# Altium footprint library libreriaPcb.PcbLib: 683 footprints (part 38 of 44)
Each footprint in its own frame and in the unit in brackets; x right, y up, seen from the top. Pads: shape width x height; smd on the part's side, far side on the other; paste and mask are expansions set on the pad; w line width, h text height; cw(c..) or ccw(c..) is an arc to the next point about the centre after c.
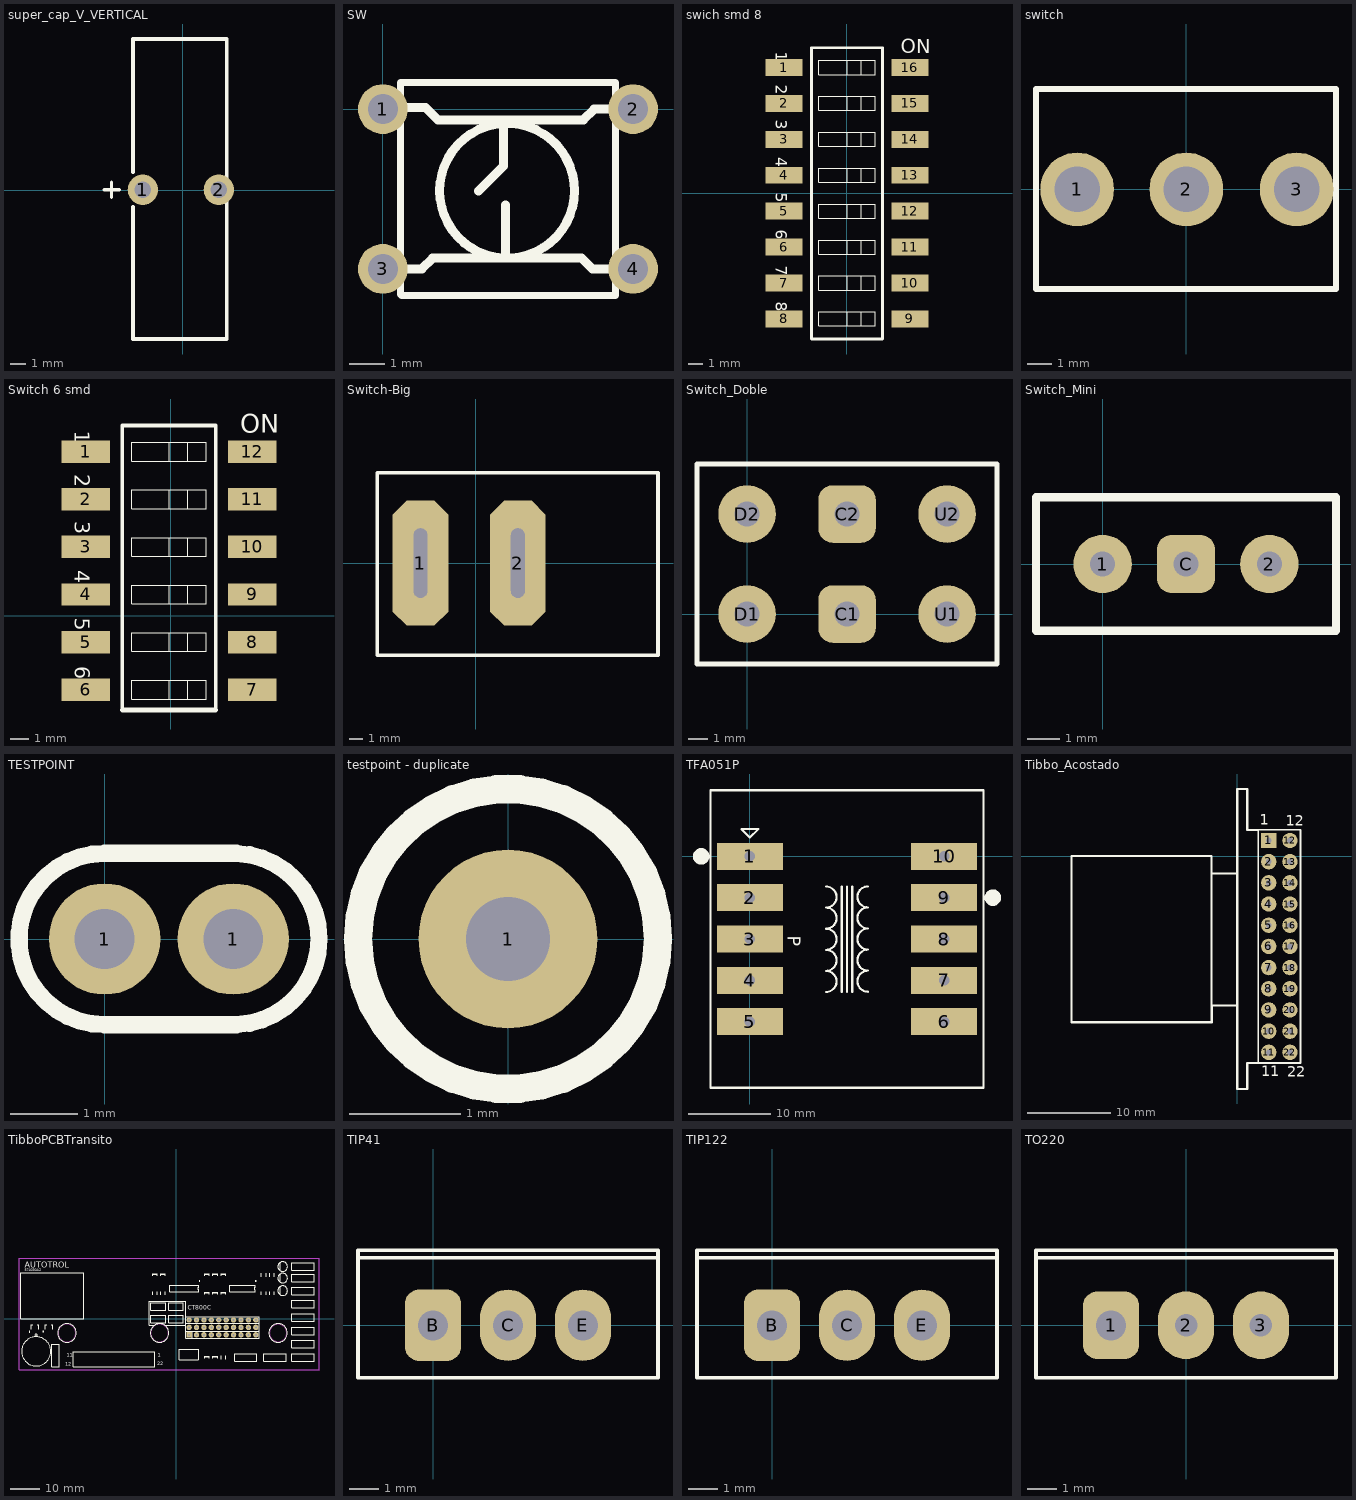
[diagram p37: the footprints below, top view; thin cyan lines are the x and y axes]

## super_cap_V_VERTICAL [mm]
height 5.5
pads (2):
  round 2 hole 1.1: 1(-2.625,0.025) 2(2.375,0.025)
Top Overlay:
  lines w0.2: -5.184,0.025 -4.168,0.025 ; -4.676,-0.483 -4.676,0.533
  lines w0.254: -3.275,-1.1 -3.275,-9.8 2.9,-9.8 2.9,9.95 -3.275,9.95 -3.275,1.175
3D body: height 18.5, standoff 2.5, extent -2.9,-7.8 -2.4,8.2
3D body: height 20, standoff 1, extent -2.4,-9.475 2.5,9.525
3D body: height 9.5, standoff -1, extent -3.022,-0.374 -2.225,0.424
3D body: height 9.5, standoff -1, extent 1.951,-0.35 2.748,0.448

## SW [mm]
pads (4):
  round 1.4 hole 0.85: 1(0,0) 2(7.05,0) 3(0,-4.5) 4(7.05,-4.5)
Top Overlay:
  circle w0.254: c3.5,-2.3 r1.9
  lines w0.2: 0.5,-5.225 0.5,0.75 6.55,0.75 6.55,-5.25 0.525,-5.25
  lines w0.254: 0.5,-4.5 1.1,-4.5 1.4,-4.2 5.6,-4.2 5.9,-4.5 6.55,-4.5 ; 0.5,0.05 1.2,0.05 1.55,-0.3 5.65,-0.3 5.95,0 6.55,0 ; 2.7,-2.3 3.4,-1.6 3.4,-0.3 ; 3.45,-4.15 3.45,-2.7 3.45,-3.95

## swich smd 8 [mm]
pads (16):
  rect 2.6x1.2 smd: 1(-4.45,8.89) 2(-4.45,6.35) 3(-4.45,3.81) 4(-4.45,1.27) 5(-4.45,-1.27) 6(-4.45,-3.81) 7(-4.45,-6.35) 8(-4.45,-8.89) 9(4.45,-8.89) 10(4.45,-6.35) 11(4.45,-3.81) 12(4.45,-1.27) 13(4.45,1.27) 14(4.45,3.81) 15(4.45,6.35) 16(4.45,8.89)
Top Overlay:
  lines w0.025: 0,-9.39 0,-8.39 ; 0,-6.85 0,-5.85 ; 0,-4.31 0,-3.31 ; 0,-1.77 0,-0.77 ; 0,0.77 0,1.77 ; 0,3.31 0,4.31 ; 0,5.85 0,6.85 ; 0,8.39 0,9.39 ; 1,-9.39 1,-8.39 ; 1,-6.85 1,-5.85 ; 1,-4.31 1,-3.31 ; 1,-1.77 1,-0.77 ; 1,0.77 1,1.77 ; 1,3.31 1,4.31 ; 1,5.85 1,6.85 ; 1,8.39 1,9.39 ; -2,-9.39 -2,-8.39 2,-8.39 2,-9.39 -2,-9.39 ; -2,-6.85 -2,-5.85 2,-5.85 2,-6.85 -2,-6.85 ; -2,-4.31 -2,-3.31 2,-3.31 2,-4.31 -2,-4.31 ; -2,-1.77 -2,-0.77 2,-0.77 2,-1.77 -2,-1.77 ; -2,0.77 -2,1.77 2,1.77 2,0.77 -2,0.77 ; -2,3.31 -2,4.31 2,4.31 2,3.31 -2,3.31 ; -2,5.85 -2,6.85 2,6.85 2,5.85 -2,5.85 ; -2,8.39 -2,9.39 2,9.39 2,8.39 -2,8.39
  lines w0.2: -2.5,-10.31 -2.5,10.29 2.5,10.29 2.5,-10.31 -2.5,-10.31
  text "6" at -5.032,-2.569 h0.8
  text "5" at -5.032,0.031 h0.8
  text "4" at -5.032,2.556 h0.8
  text "3" at -5.032,5.181 h0.8
  text "2" at -5.032,7.681 h0.8
  text "1" at -5.032,10.006 h0.8
  text "ON" at 3.81,9.906 h1
  text "7" at -5.032,-5.119 h0.8
  text "8" at -5.032,-7.659 h0.8
3D body: height 4, standoff 0, extent -2.015,5.851 2.007,6.85
3D body: height 4, standoff 0, extent -2.015,3.311 2.007,4.31
3D body: height 4, standoff 0, extent -2.015,0.771 2.007,1.77
3D body: height 4, standoff 0, extent -2.015,-1.769 2.007,-0.77
3D body: height 4, standoff 0, extent -2.015,-4.309 2.007,-3.31
3D body: height 4, standoff 0, extent -2.015,-6.849 2.007,-5.85
3D body: height 5, standoff 0, extent 0.001,8.391 0.999,9.389
3D body: height 5, standoff 0, extent 0.009,5.851 1.008,6.85
3D body: height 5, standoff 0, extent 0.009,3.311 1.008,4.31
3D body: height 5, standoff 0, extent 0.001,0.771 0.999,1.769
3D body: height 5, standoff 0, extent 0.001,-1.769 0.999,-0.771
3D body: height 5, standoff 0, extent 0.001,-4.309 0.999,-3.311
3D body: height 5, standoff 0, extent 0.001,-6.824 0.999,-5.825
3D body: height 4, standoff 0, extent -1.99,-9.389 2.032,-8.39
3D body: height 5, standoff 0, extent 0.001,-9.389 0.999,-8.391
3D body: height 4, standoff 0, extent -2.015,8.391 2.007,9.39
3D body: height 3, standoff 0, extent -2.6,-10.41 2.6,10.39
3D body: height 0.5, standoff 0, extent 3.065,8.391 5.064,9.39
3D body: height 2, standoff 0, extent 2.599,8.407 3.099,9.406
3D body: height 2, standoff 0, extent 2.595,5.851 3.095,6.85
3D body: height 2, standoff 0, extent 2.624,3.327 3.124,4.326
3D body: height 2, standoff 0, extent 2.57,0.771 3.069,1.77
3D body: height 2, standoff 0, extent 2.57,-9.364 3.069,-8.365
3D body: height 2, standoff 0, extent 2.599,-6.807 3.099,-5.808
3D body: height 2, standoff 0, extent 2.595,-4.284 3.095,-3.285
3D body: height 2, standoff 0, extent 2.595,-1.719 3.095,-0.72
3D body: height 2, standoff 0, extent -3.069,-1.769 -2.57,-0.77
3D body: height 2, standoff 0, extent -3.069,-4.335 -2.57,-3.336
3D body: height 2, standoff 0, extent -3.065,-6.858 -2.566,-5.859
3D body: height 2, standoff 0, extent -3.094,-9.415 -2.595,-8.416
3D body: height 2, standoff 0, extent -3.094,0.72 -2.595,1.719
3D body: height 2, standoff 0, extent -3.04,3.277 -2.54,4.276
3D body: height 2, standoff 0, extent -3.069,5.8 -2.57,6.799
3D body: height 2, standoff 0, extent -3.065,8.357 -2.566,9.356
3D body: height 0.5, standoff 0, extent 3.065,5.851 5.064,6.85
3D body: height 0.5, standoff 0, extent 3.073,3.311 5.072,4.309
3D body: height 0.5, standoff 0, extent 3.073,0.771 5.072,1.769
3D body: height 0.5, standoff 0, extent 3.065,-9.339 5.064,-8.34
3D body: height 0.5, standoff 0, extent 3.065,-6.799 5.064,-5.8
3D body: height 0.5, standoff 0, extent 3.065,-4.259 5.064,-3.26
3D body: height 0.5, standoff 0, extent 3.065,-1.719 5.064,-0.72
3D body: height 0.5, standoff 0, extent -5.063,-1.744 -3.064,-0.745
3D body: height 0.5, standoff 0, extent -5.063,-4.284 -3.064,-3.285
3D body: height 0.5, standoff 0, extent -5.063,-6.824 -3.064,-5.825
3D body: height 0.5, standoff 0, extent -5.063,-9.364 -3.064,-8.365
3D body: height 0.5, standoff 0, extent -5.055,0.745 -3.056,1.744
3D body: height 0.5, standoff 0, extent -5.055,3.285 -3.056,4.284
3D body: height 0.5, standoff 0, extent -5.063,5.825 -3.064,6.824
3D body: height 0.5, standoff 0, extent -5.063,8.365 -3.064,9.364

## switch [mm]
pads (3):
  round 3 hole 1.85: 1(-4.445,0) 2(0,0) 3(4.496,0)
Top Overlay:
  lines w0.254: -6.121,-4.064 -6.121,4.089 6.096,4.089 6.096,-4.064 -6.121,-4.064

## Switch 6 smd [mm]
pads (12):
  rect 2.6x1.2 smd: 1(-4.552,8.763) 2(-4.552,6.223) 3(-4.552,3.683) 4(-4.552,1.143) 5(-4.552,-1.397) 6(-4.552,-3.937) 7(4.348,-3.937) 8(4.348,-1.397) 9(4.348,1.143) 10(4.348,3.683) 11(4.348,6.223) 12(4.348,8.763)
Top Overlay:
  lines w0.025: -0.102,-4.437 -0.102,-3.437 ; -0.102,-1.897 -0.102,-0.897 ; -0.102,0.643 -0.102,1.643 ; -0.102,3.183 -0.102,4.183 ; -0.102,5.723 -0.102,6.723 ; -0.102,8.263 -0.102,9.263 ; 0.898,-4.437 0.898,-3.437 ; 0.898,-1.897 0.898,-0.897 ; 0.898,0.643 0.898,1.643 ; 0.898,3.183 0.898,4.183 ; 0.898,5.723 0.898,6.723 ; 0.898,8.263 0.898,9.263 ; -2.102,-4.437 1.898,-4.437 1.898,-3.437 -2.102,-3.437 -2.102,-4.437 ; -2.102,-1.897 1.898,-1.897 1.898,-0.897 -2.102,-0.897 -2.102,-1.897 ; -2.102,0.643 1.898,0.643 1.898,1.643 -2.102,1.643 -2.102,0.643 ; -2.102,3.183 1.898,3.183 1.898,4.183 -2.102,4.183 -2.102,3.183 ; -2.102,5.723 1.898,5.723 1.898,6.723 -2.102,6.723 -2.102,5.723 ; -2.102,8.263 1.898,8.263 1.898,9.263 -2.102,9.263 -2.102,8.263
  lines w0.2: -2.602,-5.004 -2.602,10.163 2.398,10.163 2.398,-5.029
  lines w0.254: -2.602,-5.004 -2.602,-5.029 2.398,-5.029
  text "ON" at 3.708,9.779 h1
  text "1" at -5.134,9.879 h0.8
  text "2" at -5.134,7.554 h0.8
  text "3" at -5.134,5.054 h0.8
  text "4" at -5.134,2.429 h0.8
  text "5" at -5.134,-0.096 h0.8
  text "6" at -5.134,-2.696 h0.8
3D body: height 3, standoff 0, extent -2.702,-5.004 2.498,10.263
3D body: height 0.5, standoff 0, extent -5.165,8.238 -3.166,9.237
3D body: height 0.5, standoff 0, extent -5.165,5.698 -3.166,6.697
3D body: height 0.5, standoff 0, extent -5.156,3.158 -3.157,4.157
3D body: height 0.5, standoff 0, extent -5.156,0.618 -3.157,1.617
3D body: height 0.5, standoff 0, extent -5.165,-4.411 -3.166,-3.412
3D body: height 0.5, standoff 0, extent -5.165,-1.871 -3.166,-0.872
3D body: height 0.5, standoff 0, extent 2.963,-1.846 4.962,-0.847
3D body: height 0.5, standoff 0, extent 2.963,-4.386 4.962,-3.387
3D body: height 0.5, standoff 0, extent 2.972,0.644 4.971,1.642
3D body: height 0.5, standoff 0, extent 2.972,3.184 4.971,4.182
3D body: height 0.5, standoff 0, extent 2.963,5.724 4.962,6.723
3D body: height 2, standoff 0, extent -3.167,8.23 -2.667,9.229
3D body: height 2, standoff 0, extent -3.171,5.673 -2.671,6.672
3D body: height 2, standoff 0, extent -3.141,3.15 -2.642,4.149
3D body: height 2, standoff 0, extent -3.196,0.593 -2.697,1.592
3D body: height 2, standoff 0, extent -3.171,-4.462 -2.671,-3.463
3D body: height 2, standoff 0, extent -3.171,-1.896 -2.671,-0.897
3D body: height 2, standoff 0, extent 2.494,-1.846 2.993,-0.847
3D body: height 2, standoff 0, extent 2.494,-4.411 2.993,-3.412
3D body: height 2, standoff 0, extent 2.468,0.644 2.968,1.643
3D body: height 2, standoff 0, extent 2.523,3.2 3.022,4.199
3D body: height 2, standoff 0, extent 2.494,5.724 2.993,6.723
3D body: height 2, standoff 0, extent 2.497,8.28 2.997,9.279
3D body: height 0.5, standoff 0, extent 2.963,8.264 4.962,9.263
3D body: height 4, standoff 0, extent -2.117,8.264 1.905,9.263
3D body: height 5, standoff 0, extent -0.101,-4.436 0.898,-3.438
3D body: height 5, standoff 0, extent -0.101,-1.896 0.898,-0.898
3D body: height 5, standoff 0, extent -0.101,0.644 0.898,1.642
3D body: height 5, standoff 0, extent -0.093,3.184 0.906,4.183
3D body: height 5, standoff 0, extent -0.093,5.724 0.906,6.723
3D body: height 5, standoff 0, extent -0.101,8.264 0.898,9.262
3D body: height 4, standoff 0, extent -2.117,-4.436 1.905,-3.437
3D body: height 4, standoff 0, extent -2.117,-1.896 1.905,-0.897
3D body: height 4, standoff 0, extent -2.117,0.644 1.905,1.643
3D body: height 4, standoff 0, extent -2.117,3.184 1.905,4.183
3D body: height 4, standoff 0, extent -2.117,5.724 1.905,6.723

## Switch-Big [mm]
pads (2):
  oct 4x9 hole 1 slot 5 at 90 deg: 1(-3.975,0) 2(3.038,0)
Top Overlay:
  lines w0.254: -7.1,-6.625 -7.1,-6.025 -7.1,5.9 -7.1,6.5 -6.5,6.5 12.5,6.5 13.125,6.5 13.125,5.9 13.125,-6.025 13.125,-6.625 12.5,-6.625 -6.5,-6.625 -7.1,-6.625
3D body: height 10, standoff 9, extent -7.125,-6.625 13.125,6.5
3D body: height 9, standoff 0, extent -6.5,-6.025 12.5,5.9
3D body: height 11, standoff 10, extent -5.325,-5 11.475,5
3D body: height 11.2, standoff 11.1, extent -1.112,-1 0.888,1
3D body: height 11.1, standoff 11, extent 6.713,-0.1 8.713,0.25

## Switch_Doble [mil]
pads (6):
  rrect50% 115x115 / inner round 0 / far side rrect50% 115x115 hole 50: C1(200,0) C2(200,200)
  round 115 / inner round 0 / far side round 115 hole 50: D1(0,0) D2(0,200) U1(400,0) U2(400,200)
Top Overlay:
  lines w10: -100,-100 500,-100 500,300 -100,300 -100,-100

## Switch_Mini [mil]
pads (3):
  round 70 / inner round 0 / far side round 70 hole 30: 1(0,0) 2(200,0)
  rrect50% 70x70 / inner round 0 / far side rrect50% 70x70 hole 30: C(100,0)
Top Overlay:
  lines w10: -80,-80 -80,80 280,80 280,-80 -80,-80

## TESTPOINT [mil]
pads (2):
  round 65 hole 35: 1(0,0) 1(75,0)
Top Overlay:
  lines w10: 0,-50 cw(c0,0) 0,50 76.77,50 cw(c75,0) 76.77,-50 0,-50

## testpoint - duplicate [mm]
pads (1):
  round 1.6 hole 0.75: 1(0,0)
Top Overlay:
  circle w0.254: c0,0 r1.344

## TFA051P [mm]
pads (10):
  rect 8x3.25 hole 1.25: 1(0,0) 2(0,-5) 3(0,-10) 4(0,-15) 5(0,-20) 6(23.5,-20) 7(23.5,-15) 8(23.5,-10) 9(23.5,-5) 10(23.5,0)
Top Overlay:
  circle w1: c29.4,-5 r0.5
  circle w1: c-5.9,0 r0.5
  lines w0.254: 9.21,-16.413 ccw(c9.21,-15.137) 9.21,-13.86 ccw(c9.21,-12.584) 9.21,-11.308 ccw(c9.21,-10.032) 9.21,-8.755 ccw(c9.21,-7.479) 9.21,-6.203 ccw(c9.21,-4.926) 9.21,-3.65 ; 11.115,-16.413 11.115,-3.65 ; 11.75,-16.413 11.75,-3.65 ; 12.385,-16.413 12.385,-3.65 ; 14.29,-16.388 cw(c14.29,-15.112) 14.29,-13.835 cw(c14.29,-12.559) 14.29,-11.283 cw(c14.29,-10.006) 14.29,-8.73 cw(c14.29,-7.454) 14.29,-6.177 cw(c14.29,-4.901) 14.29,-3.625 ; -4.75,-28 -4.75,8 28.25,8 28.25,-28 -4.75,-28 ; -1.016,3.3 0,2.284 1.016,3.3 -1.016,3.3
  text "P" at 4.6,-9.6 h1.52
3D body: height 28, standoff 4, extent -4.75,-28 28.25,8

## Tibbo_Acostado [mm]
pads (22):
  rect 1.85x1.85 hole 0.7: 1(3.755,1.88)
  round 1.85 hole 0.7: 2(3.755,-0.66) 3(3.755,-3.2) 4(3.755,-5.74) 5(3.755,-8.28) 6(3.755,-10.82) 7(3.755,-13.36) 8(3.755,-15.9) 9(3.755,-18.44) 10(3.755,-20.98) 11(3.755,-23.52) 12(6.295,1.88) 13(6.295,-0.66) 14(6.295,-3.2) 15(6.295,-5.74) 16(6.295,-8.28) 17(6.295,-10.82) 18(6.295,-13.36) 19(6.295,-15.9) 20(6.295,-18.44) 21(6.295,-20.98) 22(6.295,-23.52)
Top Overlay:
  lines w0.2: 2.485,-24.79 7.565,-24.79 7.565,3.15 2.485,3.15 2.485,-24.79
  lines w0.254: -3.075,-19.965 -3.075,-17.915 ; -3.075,-19.915 -19.9,-19.915 -19.9,0 -3.1,0 -3.1,-2.075 ; -0.025,-2.075 -3.1,-2.075 ; 0.025,-17.915 -3.075,-17.915 ; 2.485,-24.79 1.175,-24.79 1.175,-27.915 -0.025,-27.915 -0.025,8.05 1.175,8.05 1.175,3.15 2.485,3.15 ; -3.1,-2.075 -3.1,-17.915 -3.075,-17.915
  text "22" at 5.95,-26.445 h1.27
  text "11" at 2.875,-26.37 h1.27
  text "12" at 5.8,3.66 h1.27
  text "1" at 2.675,3.78 h1.27
3D body: height 2.25, standoff 2, extent -19.849,-19.839 -3.026,0.075
3D body: height 16, standoff 0, extent -0.024,-27.914 2.484,8.049
3D body: height 4, standoff 2, extent -3.099,-17.914 -0.026,-2.076
3D body: height 2, standoff 0, extent -19.962,-19.857 -3.138,0.057

## TibboPCBTransito [mm]
pads (30):
  round 1.85 hole 0.7: 0(4.438,-3.011) 0(6.978,-3.011) 0(9.518,-3.011) 0(12.058,-3.011) 0(14.598,-3.011) 0(17.138,-3.011) 0(19.678,-3.011) 0(22.218,-3.011) 0(24.758,-3.011) 0(27.298,-3.011) 2(4.438,-0.471) 3(6.978,-5.551) 4(6.978,-0.471) 5(9.518,-5.551) 6(9.518,-0.471) 7(12.058,-5.551) 8(12.058,-0.471) 9(14.598,-5.551) 10(14.598,-0.471) 11(17.138,-5.551) 12(17.138,-0.471) 13(19.678,-5.551) 14(19.678,-0.471) 15(22.218,-5.551) 16(22.218,-0.471) 17(24.758,-5.551) 18(24.758,-0.471) 19(27.298,-5.551) 20(27.298,-0.471)
  rect 1.85x1.85 hole 0.7: 1(4.438,-5.551)
Top Overlay:
  drawing of 183 lines, arcs and shapes, not listed
  text "1" at -6.375,-13.074 h1.27
  text "22" at -6.425,-15.919 h1.27
  text "11" at -37.591,-13.074 h1.27
  text "12" at -37.998,-16.096 h1.2
  text "574030A2" at -51.993,16.192 h0.91
  text "AUTOTROL" at -51.993,17.462 h2.05
  text "CT800C" at 3.887,2.984 h1.52
Top Paste:
  region: -29.491,14.922 -29.491,-5.144 -9.557,-5.144 -9.557,14.922
Top Solder:
  region: -29.51,15.176 -29.51,-5.144 -9.538,-5.144 -9.538,15.176
Keep-Out Layer:
  circle w0.254: c34.926,-4.915 r2.932
  circle w0.254: c-5.714,-4.915 r3.006
  circle w0.254: c-37.464,-4.915 r2.994
  lines w0.254: -53.898,-17.463 48.972,-17.463 48.972,20.637 -53.898,20.637 -53.898,-17.463
Mechanical 1:
  lines w0.254: -53.898,-17.463 48.972,-17.463 48.972,20.637 -53.898,20.637 -53.898,-17.463
3D body: height 10, standoff -1, extent -41.851,-10.494 -41.053,-9.697
3D body: height 10, standoff -1, extent -41.851,-13.034 -41.053,-12.237
3D body: height 10, standoff -1, extent -41.851,-15.574 -41.053,-14.777
3D body: height 10, standoff -1, extent 20.886,-13.671 21.683,-12.873
3D body: height 10, standoff -1, extent 23.426,-13.671 24.223,-12.873
3D body: height 10, standoff -1, extent 25.966,-13.671 26.763,-12.873
3D body: height 10, standoff -1, extent 40.571,13.507 41.368,14.305
3D body: height 10, standoff -1, extent 43.111,13.507 43.908,14.305
3D body: height 10, standoff -1, extent 45.651,13.507 46.448,14.305
3D body: height 10, standoff -1, extent 40.571,17.444 41.368,18.242
3D body: height 10, standoff -1, extent 43.111,17.444 43.908,18.242
3D body: height 10, standoff -1, extent 45.651,17.444 46.448,18.242
3D body: height 0.56, standoff 0.55, extent 15.431,-14.272 16.931,-12.272
3D body: height 0.5, standoff 0, extent -43.886,-2.514 -43.386,-1.764
3D body: height 0.5, standoff 0, extent -44.836,-4.714 -44.336,-3.964
3D body: height 0.5, standoff 0, extent -42.936,-4.714 -42.436,-3.964
3D body: height 10, standoff -1, extent 30.919,-13.671 31.716,-12.873
3D body: height 10, standoff -1, extent 33.459,-13.671 34.256,-12.873
3D body: height 10, standoff -1, extent 35.999,-13.671 36.796,-12.873
3D body: height 0.5, standoff 0, extent 6.994,7.299 7.394,8.299
3D body: height 0.5, standoff 0, extent 5.744,7.299 6.144,8.299
3D body: height 0.5, standoff 0, extent 4.469,7.299 4.869,8.299
3D body: height 0.5, standoff 0, extent 3.194,7.299 3.594,8.299
3D body: height 0.5, standoff 0, extent 1.919,7.299 2.319,8.299
3D body: height 0.5, standoff 0, extent 0.619,7.299 1.019,8.299
3D body: height 0.5, standoff 0, extent -0.631,7.299 -0.231,8.299
3D body: height 0.5, standoff 0, extent -1.906,7.299 -1.506,8.299
3D body: height 0.5, standoff 0, extent -1.931,12.299 -1.531,13.299
3D body: height 0.5, standoff 0, extent -0.656,12.299 -0.256,13.299
3D body: height 0.5, standoff 0, extent 0.619,12.299 1.019,13.299
3D body: height 0.5, standoff 0, extent 1.894,12.299 2.294,13.299
3D body: height 0.5, standoff 0, extent 3.169,12.299 3.569,13.299
3D body: height 0.5, standoff 0, extent 4.419,12.299 4.819,13.299
3D body: height 0.5, standoff 0, extent 5.694,12.299 6.094,13.299
3D body: height 0.5, standoff 0, extent 6.994,12.299 7.394,13.299
3D body: height 10, standoff -1, extent 40.571,-9.15 41.368,-8.352
3D body: height 10, standoff -1, extent 43.111,-9.15 43.908,-8.352
3D body: height 10, standoff -1, extent 45.651,-9.15 46.448,-8.352
3D body: height 10, standoff -1, extent 40.571,-4.578 41.368,-3.78
3D body: height 10, standoff -1, extent 43.111,-4.578 43.908,-3.78
3D body: height 10, standoff -1, extent 45.651,-4.578 46.448,-3.78
3D body: height 10, standoff -1, extent 40.571,-0.006 41.368,0.792
3D body: height 10, standoff -1, extent 43.111,-0.006 43.908,0.792
3D body: height 10, standoff -1, extent 45.651,-0.006 46.448,0.792
3D body: height 10, standoff -1, extent 40.571,4.566 41.368,5.364
3D body: height 10, standoff -1, extent 43.111,4.566 43.908,5.364
3D body: height 10, standoff -1, extent 45.651,4.566 46.448,5.364
3D body: height 10, standoff -1, extent 40.571,9.138 41.368,9.936
3D body: height 10, standoff -1, extent 43.111,9.138 43.908,9.936
3D body: height 10, standoff -1, extent 45.651,9.138 46.448,9.936
3D body: height 0.5, standoff 0, extent -48.636,-2.514 -48.136,-1.764
3D body: height 0.5, standoff 0, extent -49.586,-4.714 -49.086,-3.964
3D body: height 0.5, standoff 0, extent -47.686,-4.714 -47.186,-3.964
3D body: height 0, standoff -1, extent -43.838,12.05 -40.844,15.038
3D body: height 0, standoff -1, extent -43.838,0.62 -40.844,3.608
3D body: height 5, standoff 3, extent -53.116,15.78 -46.241,16.03
3D body: height 10, standoff 8, extent -53.116,15.78 -46.241,16.03
3D body: height 5, standoff 3, extent -53.116,-0.345 -46.241,-0.095
3D body: height 10, standoff 8, extent -53.116,-0.345 -46.241,-0.095
3D body: height 3, standoff 0.5, extent -53.491,5.768 -53.241,9.78
3D body: height 3, standoff 1.5, extent -53.491,5.105 -53.241,10.605
3D body: height 3, standoff 1, extent -53.491,10.643 -53.241,14.655
3D body: height 3, standoff 1, extent -53.491,1.03 -53.241,5.043
3D body: height 12, standoff 3, extent -53.491,1.405 -53.241,14.28
3D body: height 14, standoff 13, extent -53.253,4.53 -46.378,6.53
3D body: height 14, standoff 13, extent -53.253,9.193 -46.378,11.168
3D body: height 0, standoff -1, extent -33.85,2.99 -33.052,3.787
3D body: height 0, standoff -1, extent -33.85,5.53 -33.052,6.327
3D body: height 0, standoff -1, extent -33.85,8.07 -33.052,8.867
3D body: height 0, standoff -1, extent -33.85,10.61 -33.052,11.407
3D body: height 0, standoff -1, extent -36.39,4.26 -35.592,5.057
3D body: height 0, standoff -1, extent -36.39,6.8 -35.592,7.597
3D body: height 0, standoff -1, extent -36.39,9.34 -35.592,10.137
3D body: height 0, standoff -1, extent -36.39,11.88 -35.592,12.677
3D body: height 0, standoff -1, extent -46.8,0.805 -46.002,1.602
3D body: height 0, standoff -1, extent -46.8,3.345 -46.002,4.142
3D body: height 0, standoff -1, extent -46.8,11.525 -46.002,12.322
3D body: height 0, standoff -1, extent -46.8,14.065 -46.002,14.862
3D body: height 0, standoff -1, extent -39.89,-0.51 -38.692,0.686
3D body: height 0, standoff -1, extent -39.89,14.98 -38.692,16.176
3D body: height 0, standoff -1, extent -34.356,-15.556 -33.559,-14.757
3D body: height 0, standoff -1, extent -31.816,-15.556 -31.019,-14.757
3D body: height 0, standoff -1, extent -29.276,-15.556 -28.479,-14.757
3D body: height 0, standoff -1, extent -26.736,-15.556 -25.939,-14.757
3D body: height 0, standoff -1, extent -24.196,-15.556 -23.399,-14.757
3D body: height 0, standoff -1, extent -21.656,-15.556 -20.859,-14.757
3D body: height 0, standoff -1, extent -19.116,-15.556 -18.319,-14.757
3D body: height 0, standoff -1, extent -16.576,-15.556 -15.779,-14.757
3D body: height 0, standoff -1, extent -14.036,-15.556 -13.239,-14.757
3D body: height 0, standoff -1, extent -11.496,-15.556 -10.699,-14.757
3D body: height 0, standoff -1, extent -8.956,-15.556 -8.159,-14.757
3D body: height 0, standoff -1, extent -8.956,-13.016 -8.159,-12.217
3D body: height 0, standoff -1, extent -11.496,-13.016 -10.699,-12.217
3D body: height 0, standoff -1, extent -14.036,-13.016 -13.239,-12.217
3D body: height 0, standoff -1, extent -16.576,-13.016 -15.779,-12.217
3D body: height 0, standoff -1, extent -19.116,-13.016 -18.319,-12.217
3D body: height 0, standoff -1, extent -21.656,-13.016 -20.859,-12.217
3D body: height 0, standoff -1, extent -24.196,-13.016 -23.399,-12.217
3D body: height 0, standoff -1, extent -26.736,-13.016 -25.939,-12.217
3D body: height 0, standoff -1, extent -29.276,-13.016 -28.479,-12.217
3D body: height 0, standoff -1, extent -31.816,-13.016 -31.019,-12.217
3D body: height 0, standoff -1, extent -34.356,-13.016 -33.559,-12.217
3D body: height 8.2, standoff 8, extent -34.584,-15.857 -33.334,-14.482
3D body: height 8.2, standoff 8, extent -32.044,-15.857 -30.794,-14.482
3D body: height 8.2, standoff 8, extent -29.504,-15.857 -28.254,-14.482
3D body: height 8.2, standoff 8, extent -26.964,-15.857 -25.714,-14.482
3D body: height 8.2, standoff 8, extent -24.424,-15.857 -23.174,-14.482
3D body: height 8.2, standoff 8, extent -21.884,-15.857 -20.634,-14.482
3D body: height 8.2, standoff 8, extent -19.344,-15.857 -18.094,-14.482
3D body: height 8.2, standoff 8, extent -16.804,-15.844 -15.554,-14.469
3D body: height 8.2, standoff 8, extent -14.264,-15.857 -13.014,-14.482
3D body: height 8.2, standoff 8, extent -11.724,-15.857 -10.474,-14.482
3D body: height 8.2, standoff 8, extent -9.184,-15.857 -7.934,-14.482
3D body: height 8.2, standoff 8, extent -9.184,-13.317 -7.934,-11.942
3D body: height 8.2, standoff 8, extent -11.724,-13.317 -10.474,-11.942
3D body: height 8.2, standoff 8, extent -14.264,-13.317 -13.014,-11.942
3D body: height 8.2, standoff 8, extent -16.804,-13.317 -15.554,-11.942
3D body: height 8.2, standoff 8, extent -19.344,-13.317 -18.094,-11.942
3D body: height 8.2, standoff 8, extent -21.884,-13.317 -20.634,-11.942
3D body: height 8.2, standoff 8, extent -24.424,-13.317 -23.174,-11.942
3D body: height 8.2, standoff 8, extent -26.964,-13.317 -25.714,-11.942
3D body: height 8.2, standoff 8, extent -29.504,-13.317 -28.254,-11.942
3D body: height 8.2, standoff 8, extent -32.044,-13.317 -30.794,-11.942
3D body: height 8.2, standoff 8, extent -34.584,-13.317 -33.334,-11.942
3D body: height 5, standoff 2, extent -48.38,-15.246 -47.88,-15.121
3D body: height 12, standoff 0.2, extent -49.355,-15.233 -46.63,-14.658
3D body: height 10, standoff 7, extent -48.38,-15.246 -47.88,-15.121
3D body: height -8, standoff -8.2, extent 3.711,-1.175 5.211,0.325
3D body: height -8, standoff -8.2, extent 3.711,-3.715 5.211,-2.215
3D body: height -8, standoff -8.2, extent 3.711,-6.255 5.211,-4.755
3D body: height -8, standoff -8.2, extent 6.251,-6.255 7.751,-4.755
3D body: height -8, standoff -8.2, extent 6.251,-3.715 7.751,-2.215
3D body: height -8, standoff -8.2, extent 6.251,-1.175 7.751,0.325
3D body: height -8, standoff -8.2, extent 8.791,-1.175 10.291,0.325
3D body: height -8, standoff -8.2, extent 8.791,-3.715 10.291,-2.215
3D body: height -8, standoff -8.2, extent 8.791,-6.255 10.291,-4.755
3D body: height -8, standoff -8.2, extent 11.331,-6.255 12.831,-4.755
3D body: height -8, standoff -8.2, extent 11.331,-3.715 12.831,-2.215
3D body: height -8, standoff -8.2, extent 11.331,-1.175 12.831,0.325
3D body: height -8, standoff -8.2, extent 13.871,-1.175 15.371,0.325
3D body: height -8, standoff -8.2, extent 13.871,-3.715 15.371,-2.215
3D body: height -8, standoff -8.2, extent 13.871,-6.255 15.371,-4.755
3D body: height -8, standoff -8.2, extent 16.411,-6.255 17.911,-4.755
3D body: height -8, standoff -8.2, extent 16.411,-3.715 17.911,-2.215
3D body: height -8, standoff -8.2, extent 16.411,-1.175 17.911,0.325
3D body: height -8, standoff -8.2, extent 18.951,-1.175 20.451,0.325
3D body: height -8, standoff -8.2, extent 18.951,-3.715 20.451,-2.215
3D body: height -8, standoff -8.2, extent 18.951,-6.255 20.451,-4.755
3D body: height -8, standoff -8.2, extent 21.491,-6.255 22.991,-4.755
3D body: height -8, standoff -8.2, extent 21.491,-3.715 22.991,-2.215
3D body: height -8, standoff -8.2, extent 21.491,-1.175 22.991,0.325
3D body: height -8, standoff -8.2, extent 24.031,-1.175 25.531,0.325
3D body: height -8, standoff -8.2, extent 24.031,-3.715 25.531,-2.215
3D body: height -8, standoff -8.2, extent 24.031,-6.255 25.531,-4.755
3D body: height -8, standoff -8.2, extent 26.571,-6.255 28.071,-4.755
3D body: height -8, standoff -8.2, extent 26.571,-3.715 28.071,-2.215
3D body: height -8, standoff -8.2, extent 26.571,-1.175 28.071,0.325
3D body: height 1, standoff 0, extent 26.906,-5.947 27.705,-5.15
3D body: height 1, standoff 0, extent 26.906,-0.867 27.705,-0.07
3D body: height 1, standoff 0, extent 24.366,-0.867 25.165,-0.07
3D body: height 1, standoff 0, extent 24.366,-5.947 25.165,-5.15
3D body: height 1, standoff 0, extent 21.826,-5.947 22.625,-5.15
3D body: height 1, standoff 0, extent 21.826,-0.867 22.625,-0.07
3D body: height 1, standoff 0, extent 19.286,-5.947 20.085,-5.15
3D body: height 1, standoff 0, extent 19.286,-0.867 20.085,-0.07
3D body: height 1, standoff 0, extent 16.746,-5.947 17.545,-5.15
3D body: height 1, standoff 0, extent 16.746,-0.867 17.545,-0.07
3D body: height 1, standoff 0, extent 14.206,-0.867 15.005,-0.07
3D body: height 1, standoff 0, extent 14.206,-5.947 15.005,-5.15
3D body: height 1, standoff 0, extent 11.666,-5.947 12.465,-5.15
3D body: height 1, standoff 0, extent 11.666,-0.867 12.465,-0.07
3D body: height 1, standoff 0, extent 9.126,-0.867 9.925,-0.07
3D body: height 1, standoff 0, extent 9.126,-5.947 9.925,-5.15
3D body: height 1, standoff 0, extent 6.586,-5.947 7.385,-5.15
3D body: height 1, standoff 0, extent 6.586,-0.867 7.385,-0.07
3D body: height 1, standoff 0, extent 4.046,-0.867 4.845,-0.07
3D body: height 1, standoff 0, extent 4.046,-5.947 4.845,-5.15
3D body: height 0.56, standoff 0.55, extent 12.662,13.998 14.162,15.998
3D body: height 0.56, standoff 0.55, extent 15.431,7.699 16.931,9.699
3D body: height 0.56, standoff 0.55, extent 12.662,7.699 14.162,9.699
3D body: height 0.56, standoff 0.55, extent 9.868,13.998 11.368,15.998
3D body: height 0.56, standoff 0.55, extent 9.868,7.699 11.368,9.699
3D body: height 0.56, standoff 0.55, extent 15.431,13.998 16.931,15.998
3D body: height 0, standoff -1, extent 34.857,9.188 35.655,9.985
3D body: height 0, standoff -1, extent 37.397,9.188 38.195,9.985
3D body: height 0, standoff -1, extent 37.397,13.506 38.195,14.303
3D body: height 0, standoff -1, extent 34.857,13.506 35.655,14.303
3D body: height 0, standoff -1, extent 34.857,17.443 35.655,18.24
3D body: height 0, standoff -1, extent 37.397,17.443 38.195,18.24
3D body: height 0.56, standoff 0.55, extent 29.299,7.699 30.799,9.699
3D body: height 0.56, standoff 0.55, extent 29.299,13.998 30.799,15.998
3D body: height 0.56, standoff 0.55, extent 32.068,13.998 33.568,15.998
3D body: height 0.56, standoff 0.55, extent 32.068,7.699 33.568,9.699
3D body: height 0.5, standoff 0, extent 26.308,12.174 26.683,13.174
3D body: height 0.5, standoff 0, extent 25.058,12.174 25.433,13.174
3D body: height 0.5, standoff 0, extent 23.783,12.174 24.158,13.174
3D body: height 0.5, standoff 0, extent 22.508,12.174 22.883,13.174
3D body: height 0.5, standoff 0, extent 21.233,12.174 21.608,13.174
3D body: height 0.5, standoff 0, extent 19.958,12.174 20.333,13.174
3D body: height 0.5, standoff 0, extent 18.708,12.174 19.083,13.174
3D body: height 0.5, standoff 0, extent 18.683,7.424 19.058,8.424
3D body: height 0.5, standoff 0, extent 19.958,7.424 20.333,8.424
3D body: height 0.5, standoff 0, extent 21.233,7.424 21.608,8.424
3D body: height 0.5, standoff 0, extent 22.483,7.424 22.858,8.424
3D body: height 0.5, standoff 0, extent 23.758,7.424 24.133,8.424
3D body: height 0.5, standoff 0, extent 25.033,7.424 25.408,8.424
3D body: height 0.5, standoff 0, extent 26.308,7.424 26.683,8.424
3D body: height 10, standoff -1, extent 40.571,-13.671 41.368,-12.873
3D body: height 10, standoff -1, extent 43.111,-13.671 43.908,-12.873
3D body: height 10, standoff -1, extent 45.651,-13.671 46.448,-12.873
3D body: height 0.56, standoff 0.55, extent -5.27,7.699 -3.77,9.699
3D body: height 0.56, standoff 0.55, extent -8.039,7.699 -6.539,9.699
3D body: height 0.5, standoff 0, extent 1.712,-15.389 2.262,-14.189
3D body: height 0.5, standoff 0, extent 4.012,-15.389 4.562,-14.189
3D body: height 0.5, standoff 0, extent 6.312,-15.389 6.862,-14.189
3D body: height 0.5, standoff 0, extent 3.012,-10.414 5.537,-9.014
3D body: height 0.56, standoff 0.55, extent -5.27,13.998 -3.77,15.998
3D body: height 0.56, standoff 0.55, extent -8.039,13.998 -6.539,15.998
3D body: height 0.56, standoff 0.55, extent 9.868,-14.272 11.368,-12.272
3D body: height 0.56, standoff 0.55, extent 12.662,-14.272 14.162,-12.272
3D body: height 10, standoff -1, extent -7.816,3.728 -7.019,4.526
3D body: height 10, standoff -1, extent -5.276,3.728 -4.479,4.526
3D body: height 10, standoff -1, extent -7.816,-0.463 -7.019,0.335
3D body: height 10, standoff -1, extent -5.276,-0.463 -4.479,0.335
3D body: height 10, standoff -1, extent -1.72,3.728 -0.923,4.526
3D body: height 10, standoff -1, extent 0.82,3.728 1.617,4.526
3D body: height 10, standoff -1, extent -1.72,-0.463 -0.923,0.335
3D body: height 10, standoff -1, extent 0.82,-0.463 1.617,0.335
3D body: height 2, standoff 0.2, extent -42.722,-16.447 -40.182,-8.827
3D body: height 2, standoff 0.2, extent 20.041,-14.522 27.616,-12.022
3D body: height 2, standoff 0.2, extent 39.726,12.656 47.301,15.156
3D body: height 2, standoff 0.2, extent 39.726,16.593 47.301,19.093
3D body: height 0.55, standoff 0, extent 15.431,-14.897 16.931,-11.772
3D body: height 1.45, standoff 0.2, extent -45.111,-3.964 -42.161,-2.514
3D body: height 2, standoff 0.2, extent 30.074,-14.522 37.649,-12.022
3D body: height 1.4, standoff 0.3, extent -2.256,8.299 7.619,12.299
3D body: height 2, standoff 0.2, extent 39.726,-10.001 47.301,-7.501
3D body: height 2, standoff 0.2, extent 39.726,-5.429 47.301,-2.929
3D body: height 2, standoff 0.2, extent 39.726,-0.857 47.301,1.643
3D body: height 2, standoff 0.2, extent 39.726,3.715 47.301,6.215
3D body: height 2, standoff 0.2, extent 39.726,8.287 47.301,10.787
3D body: height 1.45, standoff 0.2, extent -49.861,-3.964 -46.911,-2.514
3D body: height 13.64, standoff 0.2, extent -53.368,-0.232 -31.514,15.907
3D body: height 0, standoff -1, extent -48.404,-9.634 -47.606,-8.837
3D body: height 0, standoff -1, extent -48.404,-13.634 -47.606,-12.837
3D body: height 12.2, standoff 0.2, extent -51.997,-15.233 -44.013,-7.265
3D body: height 12.4, standoff 12, extent -51.03,-14.222 -45.042,-8.245
3D body: height -0.5, standoff -8, extent 3.444,-6.552 28.307,0.531
3D body: height 0.55, standoff 0, extent 12.662,13.498 14.162,16.623
3D body: height 0.55, standoff 0, extent 15.431,7.199 16.931,10.324
3D body: height 0.55, standoff 0, extent 12.662,7.199 14.162,10.324
3D body: height 0.55, standoff 0, extent 9.868,13.498 11.368,16.623
3D body: height 0.55, standoff 0, extent 9.868,7.199 11.368,10.324
3D body: height 0.55, standoff 0, extent 15.431,13.498 16.931,16.623
3D body: height 6.2, standoff 0.2, extent 35.029,8.088 38.023,11.076
3D body: height 6.2, standoff 0.2, extent 35.029,12.406 38.023,15.394
3D body: height 6.2, standoff 0.2, extent 35.029,16.343 38.023,19.331
3D body: height 0.55, standoff 0, extent 29.299,7.199 30.799,10.324
3D body: height 0.55, standoff 0, extent 29.299,13.373 30.799,16.498
3D body: height 0.55, standoff 0, extent 32.068,13.373 33.568,16.498
3D body: height 0.55, standoff 0, extent 32.068,7.074 33.568,10.199
3D body: height 1.75, standoff 0.2, extent 18.308,8.424 27.058,12.174
3D body: height 2, standoff 0.2, extent 39.726,-14.522 47.301,-12.022
3D body: height 0.55, standoff 0, extent -5.27,7.199 -3.77,10.324
3D body: height 0.55, standoff 0, extent -8.039,7.199 -6.539,10.324
3D body: height 1.73, standoff 0.2, extent 0.935,-14.191 7.689,-10.412
3D body: height 0.55, standoff 0, extent -5.27,13.498 -3.77,16.623
3D body: height 0.55, standoff 0, extent -8.039,13.498 -6.539,16.623
3D body: height 0.55, standoff 0, extent 9.868,-14.772 11.368,-11.647
3D body: height 0.55, standoff 0, extent 12.662,-14.772 14.162,-11.647
3D body: height 2, standoff 0.2, extent -8.676,2.877 -3.626,5.377
3D body: height 2, standoff 0.2, extent -8.676,-1.314 -3.626,1.186
3D body: height 2, standoff 0.2, extent -2.58,2.877 2.47,5.377
3D body: height 2, standoff 0.2, extent -2.58,-1.314 2.47,1.186
3D body: height 2, standoff 0, extent 3.313,-6.676 28.441,0.672
3D body: height 4, standoff 0, extent 26.848,-6 27.748,-5.101
3D body: height 4, standoff 0, extent 24.308,-6 25.208,-5.101
3D body: height 4, standoff 0, extent 21.768,-6 22.668,-5.101
3D body: height 4, standoff 0, extent 19.228,-6 20.128,-5.101
3D body: height 4, standoff 0, extent 16.688,-6 17.588,-5.101
3D body: height 4, standoff 0, extent 14.148,-6 15.048,-5.101
3D body: height 4, standoff 0, extent 11.608,-6 12.508,-5.101
3D body: height 4, standoff 0, extent 9.068,-6 9.968,-5.101
3D body: height 4, standoff 0, extent 6.528,-6 7.428,-5.101
3D body: height 4, standoff 0, extent 3.988,-6 4.888,-5.101
3D body: height 4, standoff 0, extent 26.848,-0.92 27.748,-0.021
3D body: height 4, standoff 0, extent 24.308,-0.92 25.208,-0.021
3D body: height 4, standoff 0, extent 21.768,-0.92 22.668,-0.021
3D body: height 4, standoff 0, extent 19.228,-0.92 20.128,-0.021
3D body: height 4, standoff 0, extent 16.688,-0.92 17.588,-0.021
3D body: height 4, standoff 0, extent 14.148,-0.92 15.048,-0.021
3D body: height 4, standoff 0, extent 11.608,-0.92 12.508,-0.021
3D body: height 4, standoff 0, extent 9.068,-0.92 9.968,-0.021
3D body: height 4, standoff 0, extent 6.528,-0.92 7.428,-0.021
3D body: height 4, standoff 0, extent 4.036,-0.91 4.936,-0.011

## TIP41 [mil]
pads (3):
  rrect50% 75x95 / inner round 0 / far side rrect50% 75x95 hole 40 paste+0: B(0,0)
  oval 75x95 / inner round 0 / far side oval 75x95 hole 40 paste+0: C(100,0) E(200,0)
Top Overlay:
  lines w5: -100,90 -100,100 300,100 300,90 ; -100,90 300,90 ; -100,90 -100,10 -100,-70 300,-70 300,90
3D body: height 759.84, standoff 507.87, extent -97.61,43.04 297,94.18
3D body: height 507.87, standoff 157.48, extent -99.6,-71 298,96.17

## TIP122 [mil]
pads (3):
  rrect50% 75x95 / inner round 0 / far side rrect50% 75x95 hole 40 paste+0: B(0,0)
  oval 75x95 / inner round 0 / far side oval 75x95 hole 40 paste+0: C(100,0) E(200,0)
Top Overlay:
  lines w5: -100,90 -100,10 -100,-70 300,-70 300,90 ; -100,90 300,90 ; -100,90 -100,100 300,100 300,90
3D body: height 507.87, standoff 157.48, extent -101.6,-72 296,95.17
3D body: height 759.84, standoff 507.87, extent -99.61,42.04 295,93.18

## TO220 [mil]
pads (3):
  rrect50% 75x90 / inner rrect50% 0x0 / far side rrect50% 75x90 hole 40: 1(-100,0)
  oval 75x90 / inner round 0 / far side oval 75x90 hole 30: 2(0,0) 3(100,0)
Top Overlay:
  lines w5: -200,90 -200,100 200,100 200,90 ; -200,90 200,90 ; -200,90 -200,10 -200,-70 200,-70 200,90
3D body: height 759.84, standoff 507.87, extent -196.61,45.04 198,96.18
3D body: height 507.87, standoff 157.48, extent -198.6,-69 199,98.17